# Altium integrated library FS44B0.IntLib: 48 symbols
Pins are listed as number, name and electrical type; pins without a type are passive.

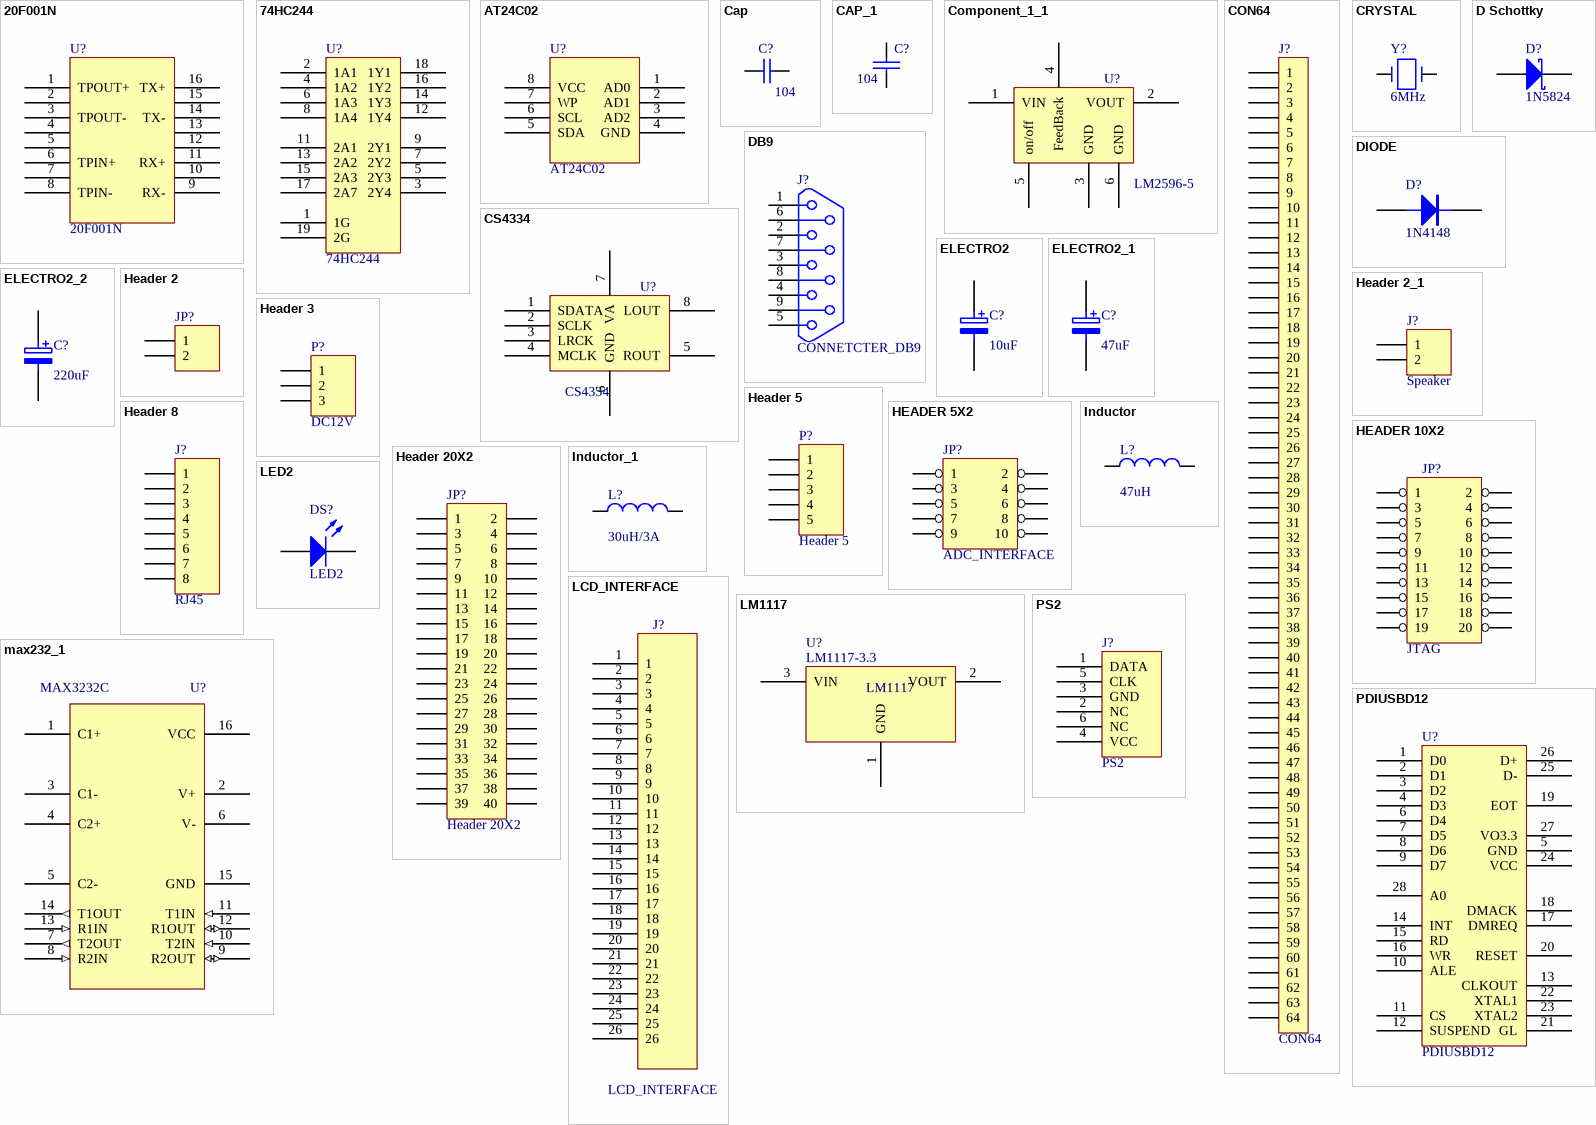
[diagram p0: symbols 20F001N to PS2]

## 20F001N
designator U?
footprint LAN
pins: 1 TPOUT+, 2, 3 TPOUT-, 4, 5, 6 TPIN+, 7, 8 TPIN-, 9 RX-, 10, 11 RX+, 12, 13, 14 TX-, 15, 16 TX+

## 74HC244
designator U?
footprint SOP20
pins: 1 1G, 2 1A1, 3 2Y4, 4 1A2, 5 2Y3, 6 1A3, 7 2Y2, 8 1A4, 9 2Y1, 11 2A1, 12 1Y4, 13 2A2, 14 1Y3, 15 2A3, 16 1Y2, 17 2A7, 18 1Y1, 19 2G

## AT24C02
designator U?
footprint M34063A-SO8W
pins: 1 AD0, 2 AD1, 3 AD2, 4 GND, 5 SDA, 6 SCL, 7 WP, 8 VCC

## Cap
designator C?  value 104  (hidden comment: Cap)
Capacitor; Published: 8-Jun-2000; LatestRevisionDate: 17-Jul-2002; LatestRevisionNote: Re-released for DXP Platform.; Publisher: Altium Limited
footprint R2012-0805 (Thermistor; 2 Leads)
footprint R2012-0805 (Thermistor; 2 Leads)
simulation model CAP (Capacitor)
signal-integrity model Cap
pins: 1, 2

## CAP_1
designator C?, comment 104
Capacitor
footprint R2012-0805 (Thermistor; 2 Leads)
pins: 1, 2

## Component_1_1
designator U?, comment LM2596-5
footprint LM2596S
pins: 1 VIN, 2 VOUT, 3 GND, 4 FeedBack, 5 on/off, 6 GND

## CON64
designator J?
footprint 64PIN-DIP-2.0
pins: 1, 2, 3, 4, 5, 6, 7, 8, 9, 10, 11, 12, 13, 14, 15, 16, 17, 18, 19, 20, 21, 22, 23, 24, 25, 26, 27, 28, 29, 30, 31, 32, 33, 34, 35, 36, 37, 38, 39, 40, 41, 42, 43, 44, 45, 46, 47, 48, 49, 50, 51, 52, 53, 54, 55, 56, 57, 58, 59, 60, 61, 62, 63, 64

## CRYSTAL
designator Y?, comment 6MHz
Text Field1: 20; Text Field2: 20
footprint XTAL2
pins: 1, 2

## CS4334
designator U?
footprint M34063A-SO8W
pins: 1 SDATA, 2 SCLK, 3 LRCK, 4 MCLK, 5 ROUT, 6 GND, 7 VA, 8 LOUT

## D Schottky
designator D?, comment 1N5824
Schottky Diode; Published: 8-Jun-2000; LatestRevisionDate: 17-Jul-2002; LatestRevisionNote: Re-released for DXP Platform.; PackageReference: SMB; Publisher: Altium Limited; Code_JEDEC: DO-214-AA
footprint SMB (DO-214-AA/SMB; 2 C-Bend Leads; Body 5.3 x 3.6 mm, inc. leads (LxW))
simulation model SKYDIODE (Diode)
signal-integrity model D Schottky
pins: 1 A, 2 K

## DB9
designator J?, comment CONNETCTER_DB9
footprint DSUB1.385-2H9
pins: 1, 2, 3, 4, 5, 6, 7, 8, 9

## DIODE
designator D?, comment 1N4148
Diode
footprint 3.2X1.6X1.1 (SMT LED; 2 Flat Leads)
pins: 1 A, 2 K

## ELECTRO2
designator C?, comment 10uF
Electrolytic Capacitor
footprint C1206 (Chip Capacitor; Body 3.2 x 1.6 mm (LxW typ))
pins: 1, 2

## ELECTRO2_1
designator C?, comment 47uF
Electrolytic Capacitor
footprint C476
pins: 1, 2

## ELECTRO2_2
designator C?, comment 220uF
Electrolytic Capacitor
footprint CAP-220UF-25V/SMD
pins: 1, 2

## Header 2
designator JP?, comment JP1  (value not drawn)
Header, 2-Pin; LatestRevisionDate: 17-Jul-2002; LatestRevisionNote: Re-released for DXP Platform.; Publisher: Altium Limited
footprint HDR1X2 (Connector; Header; 2 Position)
signal-integrity model Connector
pins: 1, 2

## Header 2_1
designator J?, comment Speaker
Header, 2-Pin; LatestRevisionDate: 17-Jul-2002; LatestRevisionNote: Re-released for DXP Platform.; Publisher: Altium Limited
footprint 2PIN3
signal-integrity model Connector
pins: 1, 2

## Header 3
designator P?, comment DC12V
Header, 3-Pin; LatestRevisionDate: 17-Jul-2002; LatestRevisionNote: Re-released for DXP Platform.; Publisher: Altium Limited
footprint DC7-12V
signal-integrity model Connector
pins: 1, 2, 3

## Header 5
designator P?
Header, 5-Pin; LatestRevisionDate: 17-Jul-2002; LatestRevisionNote: Re-released for DXP Platform.; Publisher: Altium Limited
footprint LV
signal-integrity model Connector
pins: 1, 2, 3, 4, 5

## HEADER 5X2
designator JP?, comment ADC_INTERFACE
footprint 10PIN-DIP
pins: 1, 2, 3, 4, 5, 6, 7, 8, 9, 10

## Header 8
designator J?, comment RJ45
Header, 8-Pin; LatestRevisionDate: 17-Jul-2002; LatestRevisionNote: Re-released for DXP Platform.; Publisher: Altium Limited
footprint 20F001N
signal-integrity model Connector
pins: 1, 2, 3, 4, 5, 6, 7, 8

## HEADER 10X2
designator JP?, comment JTAG
footprint 20PIN2
pins: 1, 2, 3, 4, 5, 6, 7, 8, 9, 10, 11, 12, 13, 14, 15, 16, 17, 18, 19, 20

## Header 20X2
designator JP?
Header, 20-Pin, Dual row; LatestRevisionDate: 17-Jul-2002; LatestRevisionNote: Re-released for DXP Platform.; Publisher: Altium Limited
footprint 40PIN-DIP
signal-integrity model Connector
pins: 1, 2, 3, 4, 5, 6, 7, 8, 9, 10, 11, 12, 13, 14, 15, 16, 17, 18, 19, 20, 21, 22, 23, 24, 25, 26, 27, 28, 29, 30, 31, 32, 33, 34, 35, 36, 37, 38, 39, 40

## Inductor
designator L?  value 47uH  (hidden comment: Inductor)
Code_IEC: 1005; Published: 8-Jun-2000; LatestRevisionDate: 17-Jul-2002; LatestRevisionNote: Re-released for DXP Platform.; PackageReference: 0402-A; Publisher: Altium Limited; Code_JEITA: 0402
simulation model INDUCTOR (Inductor)
signal-integrity model Inductor
footprint L10uF
pins: 1, 2

## Inductor_1
designator L?, comment value 30uH/3A  (hidden comment: Inductor)
Code_IEC: 1005; Published: 8-Jun-2000; LatestRevisionDate: 17-Jul-2002; LatestRevisionNote: Re-released for DXP Platform.; PackageReference: 0402-A; Publisher: Altium Limited; Code_JEITA: 0402
simulation model INDUCTOR (Inductor)
signal-integrity model Inductor
footprint L_30uH
pins: 1, 2

## LCD_INTERFACE
designator J?
footprint 26PIN-DIP
pins: 1, 2, 3, 4, 5, 6, 7, 8, 9, 10, 11, 12, 13, 14, 15, 16, 17, 18, 19, 20, 21, 22, 23, 24, 25, 26

## LED2
designator DS?
Typical RED, GREEN, YELLOW, AMBER GaAs LED; Published: 8-Jun-2000; LatestRevisionDate: 17-Jul-2002; LatestRevisionNote: Re-released for DXP Platform.; Publisher: Altium Limited
footprint CC2012-0805 (Chip Capacitor; Body 2.0 x 1.2 mm (LxW typ))
simulation model LED2 (Diode)
pins: 1 A, 2 K

## LM1117
designator U?, comment LM1117-3.3
footprint DSO-G3 (SOT-223/SC-73; 4 Leads; Body 6.7 x 7.3 mm, inc. leads (LxW max))
pins: 1 GND, 2 VOUT, 3 VIN

## max232_1
designator U?, comment MAX3232C
Text Field1: 90; Text Field2: 190
footprint MAX3232ESA-SO16
pins: 1 C1+, 2 V+, 3 C1-, 4 C2+, 5 C2-, 6 V-, 7 T2OUT (out), 8 R2IN (in), 9 R2OUT (io), 10 T2IN (in), 11 T1IN (in), 12 R1OUT (io), 13 R1IN (in), 14 T1OUT (out), 15 GND (power), 16 VCC (power)

## PDIUSBD12
designator U?
footprint PDIUSBD12-SSOP28
pins: 1 D0, 2 D1, 3 D2, 4 D3, 5 GND, 6 D4, 7 D5, 8 D6, 9 D7, 10 ALE, 11 CS, 12 SUSPEND, 13 CLKOUT, 14 INT, 15 RD, 16 WR, 17 DMREQ, 18 DMACK, 19 EOT, 20 RESET, 21 GL, 22 XTAL1, 23 XTAL2, 24 VCC, 25 D-, 26 D+, 27 VO3.3, 28 A0

## PS2
designator J?
footprint PS_2
pins: 1 DATA, 2 NC, 3 GND, 4 VCC, 5 CLK, 6 NC

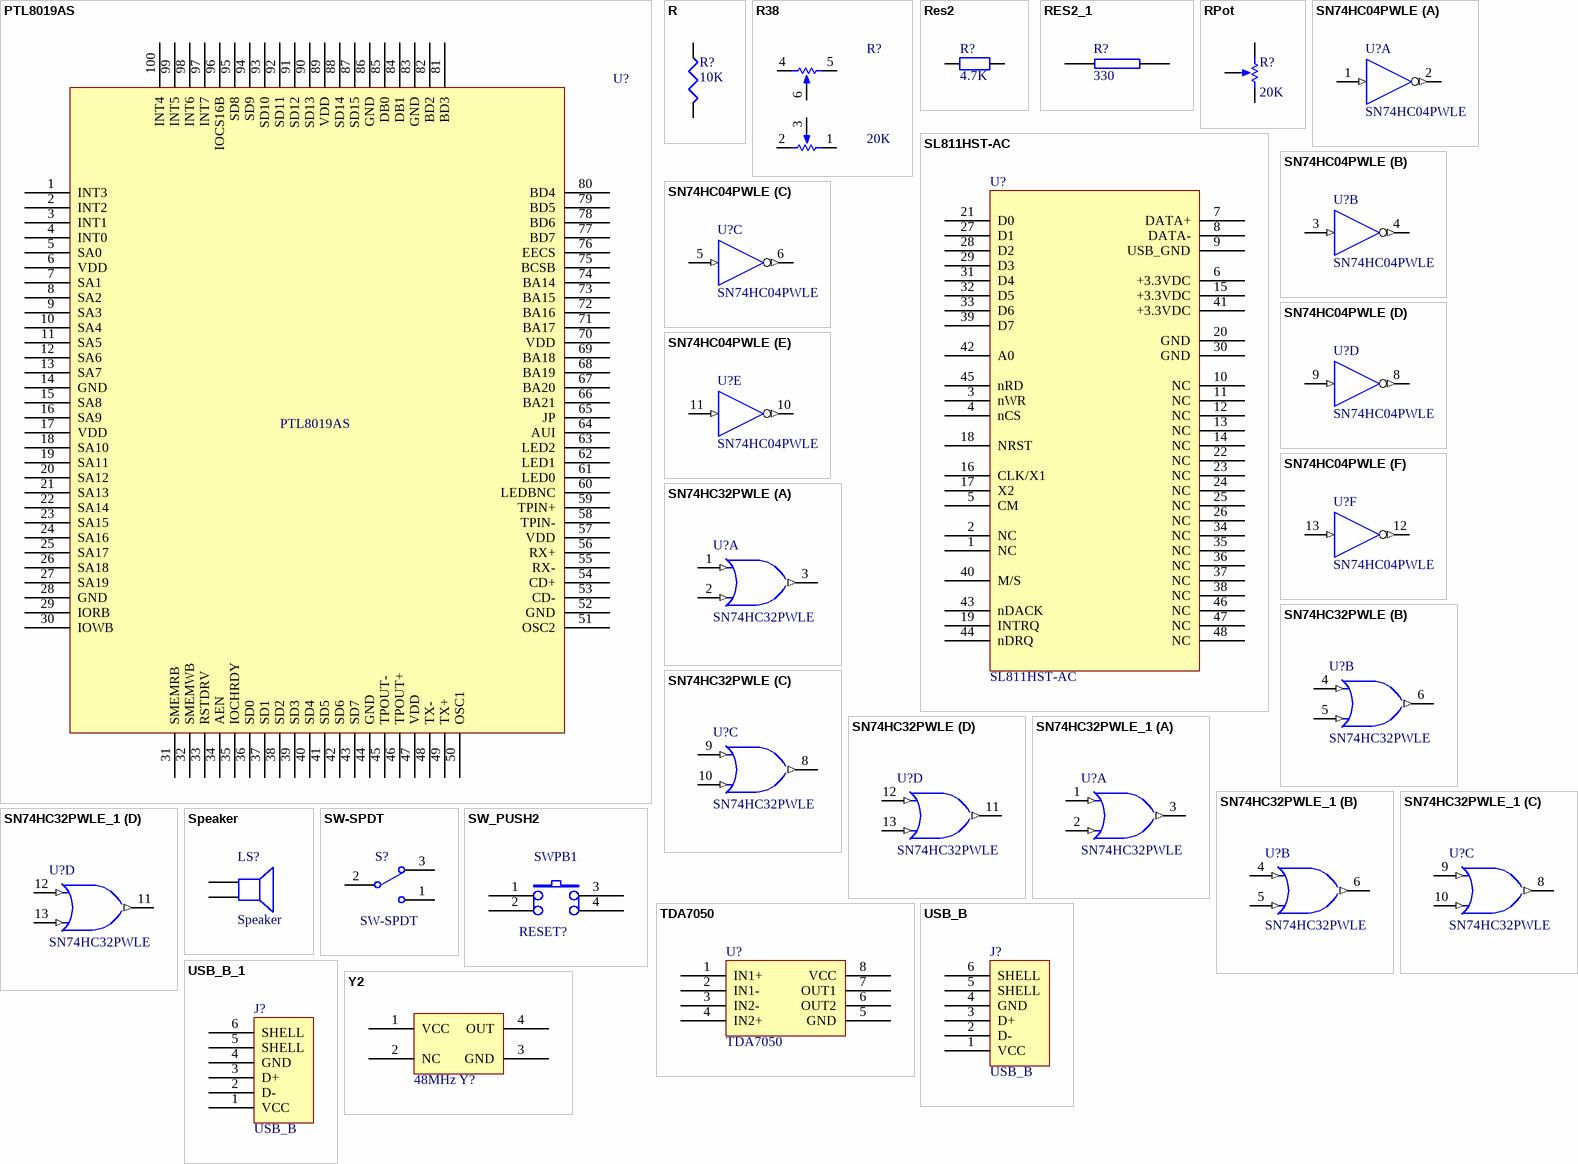
[diagram p1: symbols PTL8019AS to Y2]

## PTL8019AS
designator U?
footprint RTL8019as
pins: 1 INT3, 2 INT2, 3 INT1, 4 INT0, 5 SA0, 6 VDD, 7 SA1, 8 SA2, 9 SA3, 10 SA4, 11 SA5, 12 SA6, 13 SA7, 14 GND, 15 SA8, 16 SA9, 17 VDD, 18 SA10, 19 SA11, 20 SA12, 21 SA13, 22 SA14, 23 SA15, 24 SA16, 25 SA17, 26 SA18, 27 SA19, 28 GND, 29 IORB, 30 IOWB, 31 SMEMRB, 32 SMEMWB, 33 RSTDRV, 34 AEN, 35 IOCHRDY, 36 SD0, 37 SD1, 38 SD2, 39 SD3, 40 SD4, 41 SD5, 42 SD6, 43 SD7, 44 GND, 45 TPOUT-, 46 TPOUT+, 47 VDD, 48 TX-, 49 TX+, 50 OSC1, 51 OSC2, 52 GND, 53 CD-, 54 CD+, 55 RX-, 56 RX+, 57 VDD, 58 TPIN-, 59 TPIN+, 60 LEDBNC, 61 LED0, 62 LED1, 63 LED2, 64 AUI, 65 JP, 66 BA21, 67 BA20, 68 BA19, 69 BA18, 70 VDD, 71 BA17, 72 BA16, 73 BA15, 74 BA14, 75 BCSB, 76 EECS, 77 BD7, 78 BD6, 79 BD5, 80 BD4, 81 BD3, 82 BD2, 83 GND, 84 DB1, 85 DB0, 86 GND, 87 SD15, 88 SD14, 89 VDD, 90 SD13, 91 SD12, 92 SD11, 93 SD10, 94 SD9, 95 SD8, 96 IOCS16B, 97 INT7, 98 INT6, 99 INT5, 100 INT4

## R
designator R?, comment 10K
Text Field1: 20; Text Field2: 30
footprint R2012-0805 (Thermistor; 2 Leads)
pins: 1, 2

## R38
designator R?, comment 20K
footprint R_C
pins: 1 TOP, 2 BOT, 3 TAP, 4 TOP, 5 BOT, 6 TAP

## Res2
designator R?  value 4.7K  (hidden comment: Res2)
Resistor; Published: 8-Jun-2000; LatestRevisionDate: 17-Jul-2002; LatestRevisionNote: Re-released for DXP Platform.; Publisher: Altium Limited
footprint R2012-0805 (Thermistor; 2 Leads)
simulation model RESISTOR (Resistor)
signal-integrity model Res
pins: 1, 2

## RES2_1
designator R?, comment 330
footprint R2012-0805 (Thermistor; 2 Leads)
pins: 1, 2

## RPot
designator R?  value 20K  (hidden comment: RPot)
Potentiometer; Sim Note: Enter the Resistance value and the set point into parameter fields.; Set Position: 0.5; Published: 8-Jun-2000; LatestRevisionDate: 17-Jul-2002; LatestRevisionNote: Re-released for DXP Platform.; Publisher: Altium Limited
footprint DIP3
simulation model POT (Potentiometer)
pins: 1 TOP, 2 BOT, 3 TAP
1 alternate drawing of the same symbol

## SL811HST-AC
designator U?
footprint SL811HS
pins: 1 NC, 2 NC, 3 nWR, 4 nCS, 5 CM, 6 +3.3VDC, 7 DATA+, 8 DATA-, 9 USB_GND, 10 NC, 11 NC, 12 NC, 13 NC, 14 NC, 15 +3.3VDC, 16 CLK/X1, 17 X2, 18 NRST, 19 INTRQ, 20 GND, 21 D0, 22 NC, 23 NC, 24 NC, 25 NC, 26 NC, 27 D1, 28 D2, 29 D3, 30 GND, 31 D4, 32 D5, 33 D6, 34 NC, 35 NC, 36 NC, 37 NC, 38 NC, 39 D7, 40 M/S, 41 +3.3VDC, 42 A0, 43 nDACK, 44 nDRQ, 45 nRD, 46 NC, 47 NC, 48 NC

## SN74HC04PWLE
designator U?
Hex Inverter; Published: 8-Jun-2000; LatestRevisionDate: 04-Mar-2005; LatestRevisionNote: Stylized 3D Model Added.; DatasheetVersion: May-1997; PackageVersion: Feb-1999; PackageReference: PW014; Publisher: Altium Limited; PackageDescription: Shrink Small Outline; 14 Leads; Body Width 4.4 mm; Pitch 0.65 mm; ComponentLink1Description: Manufacturer Link; ComponentLink1URL: http://www.ti.com/; ComponentLink2Description: Datasheet; ComponentLink2URL: http://www-s.ti.com/sc/ds/sn74hc04.pdf
footprint 74HC32
3D model PW014 (Shrink Small Outline; 14 Leads; Body Width 4.4 mm; Pitch 0.65 mm)
signal-integrity model SN74HC04PWLE
pins on every part: 7 GND (power) hidden to GND, 14 VCC (power) hidden to VCC
part A pins: 1 A (in), 2 Y (out)
part B pins: 3 A (in), 4 Y (out)
part C pins: 5 A (in), 6 Y (out)
part D pins: 8 Y (out), 9 A (in)
part E pins: 10 Y (out), 11 A (in)
part F pins: 12 Y (out), 13 A (in)

## SN74HC32PWLE
designator U?
Quadruple 2-Input Positive-OR Gate; Published: 8-Jun-2000; LatestRevisionDate: 04-Mar-2005; LatestRevisionNote: Stylized 3D Model Added.; DatasheetVersion: May-1997; PackageVersion: Feb-1999; PackageReference: PW014; Publisher: Altium Limited; PackageDescription: Shrink Small Outline; 14 Leads; Body Width 4.4 mm; Pitch 0.65 mm; ComponentLink1Description: Manufacturer Link; ComponentLink1URL: http://www.ti.com/; ComponentLink2Description: Datasheet; ComponentLink2URL: http://www-s.ti.com/sc/ds/sn74hc32.pdf
3D model PW014 (Shrink Small Outline; 14 Leads; Body Width 4.4 mm; Pitch 0.65 mm)
signal-integrity model SN74HC32PWLE
pins on every part: 7 GND (power) hidden to GND, 14 VCC (power) hidden to VCC
part A pins: 1 A (in), 2 B (in), 3 Y (out)
part B pins: 4 A (in), 5 B (in), 6 Y (out)
part C pins: 8 Y (out), 9 A (in), 10 B (in)
part D pins: 11 Y (out), 12 A (in), 13 B (in)

## SN74HC32PWLE_1
designator U?, comment SN74HC32PWLE
Quadruple 2-Input Positive-OR Gate; Published: 8-Jun-2000; LatestRevisionDate: 04-Mar-2005; LatestRevisionNote: Stylized 3D Model Added.; DatasheetVersion: May-1997; PackageVersion: Feb-1999; PackageReference: PW014; Publisher: Altium Limited; PackageDescription: Shrink Small Outline; 14 Leads; Body Width 4.4 mm; Pitch 0.65 mm; ComponentLink1Description: Manufacturer Link; ComponentLink1URL: http://www.ti.com/; ComponentLink2Description: Datasheet; ComponentLink2URL: http://www-s.ti.com/sc/ds/sn74hc32.pdf
footprint 74HC32
3D model PW014 (Shrink Small Outline; 14 Leads; Body Width 4.4 mm; Pitch 0.65 mm)
signal-integrity model SN74HC32PWLE
pins on every part: 7 GND (power) hidden to GND, 14 VCC (power) hidden to VCC
part A pins: 1 A (in), 2 B (in), 3 Y (out)
part B pins: 4 A (in), 5 B (in), 6 Y (out)
part C pins: 8 Y (out), 9 A (in), 10 B (in)
part D pins: 11 Y (out), 12 A (in), 13 B (in)

## Speaker
designator LS?
Loudspeaker; Published: 24-Mar-1999; LatestRevisionDate: 17-Jul-2002; LatestRevisionNote: Re-released for DXP Platform.; Publisher: Altium Limited
footprint BEEP
pins: 1, 2

## SW-SPDT
designator S?
SPDT Subminiature Toggle Switch, Right Angle Mounting, Vertical Actuation; Published: 24-Mar-1999; LatestRevisionDate: 17-Dec-2003; LatestRevisionNote: Schematic revised, PCB Footprint replaced.; DatasheetDocument: 05-Dec-2000; Publisher: Altium Limited
footprint SW_SPDT
pins: 1, 2, 3

## SW_PUSH2
designator RESET?, comment SWPB1
Text Field1: 30; Text Field2: 30
footprint Reset
pins: 1, 2, 3 2, 4 6

## TDA7050
designator U?
footprint M34063A-SO8W
pins: 1 IN1+, 2 IN1-, 3 IN2-, 4 IN2+, 5 GND, 6 OUT2, 7 OUT1, 8 VCC

## USB_B
designator J?
footprint USB-B1
pins: 1 VCC, 2 D-, 3 D+, 4 GND, 5 SHELL, 6 SHELL

## USB_B_1
designator J?, comment USB_B
footprint USB-B2
pins: 1 VCC, 2 D-, 3 D+, 4 GND, 5 SHELL, 6 SHELL

## Y2
designator Y?, comment 48MHz
footprint XTAL6
pins: 1 VCC, 2 NC, 3 GND, 4 OUT